# EAGLE library part IR21844 (library charleses_parts_bin)
IR21844S 2A Half-bridge driver with dead time SOIC-14
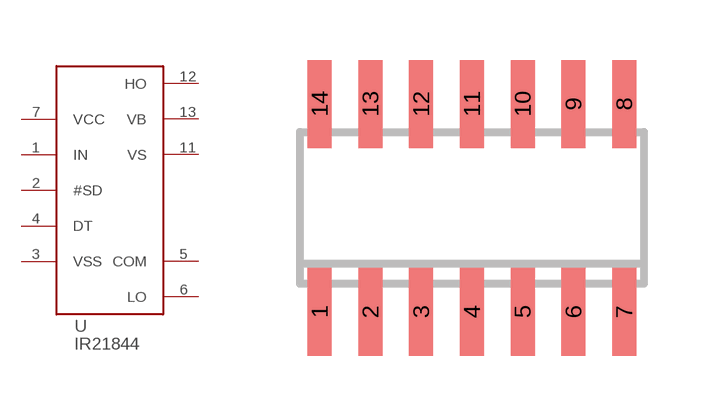
[diagram p0: symbol with the pads of IR21844; footprint IR21844]

Designator prefix U

## IR21844  [IR21844]
1  IN  in
2  #SD  in
3  VSS  pwr
4  DT  pas
5  COM  pwr
6  LO
7  VCC  pwr
11  VS
12  HO
13  VB  pwr

## Footprint IR21844 (pad centres in mm)
IR21844 in SOIC14 Narrow
smd 0.6 x 2.2: 1 -5.08,-2.6; 2 -3.81,-2.6; 3 -2.54,-2.6; 4 -1.27,-2.6; 5 0,-2.6; 6 1.27,-2.6; 7 2.54,-2.6; 8 2.54,2.6; 9 1.27,2.6; 10 0,2.6; 11 -1.27,2.6; 12 -2.54,2.6; 13 -3.81,2.6; 14 -5.08,2.6